# Altium schematic symbol library Capacitors.SchLib: 7 symbols
Pins are listed as number, name and electrical type; pins without a type are passive.

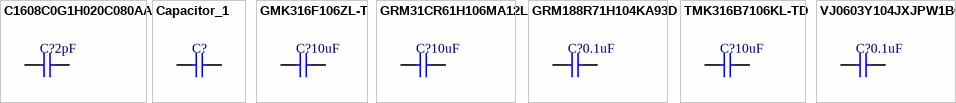
[diagram p0: symbols C1608C0G1H020C080AA to VJ0603Y104JXJPW1BC]

## C1608C0G1H020C080AA
designator C?  value 2pF  (hidden comment: *)
CAP CER 2pF 0603 50V C0G 12.5%; Manufacturer: TDK; Manufacturer Part Number: C1608C0G1H020C080AA; Description: Multilayer Ceramic Capacitors MLCC - SMD/SMT 0603 50volts 2.0pF C0G 0.25pF; Tolerance: 0.25 pF; Type: Commercial Grade MLCC; Voltage Rating DC: 50 VDC; Class: Class 1; Dielectric: C0G (NP0); Supplier 1: Mouser; Supplier Part Number 1: 810-C1608C0G1H020C; RoHS: RoHS Compliant; Category: Multilayer Ceramic Capacitors MLCC - SMD/SMT; Stock 1: 11697; Pricing 1: 1=0.262, 10=0.033, 100=0.023, 500=0.020, 1000=0.015, 4000=0.013, 8000=0.011, 24000=0.010, 48000=0.008 (EUR); Capacitance: 2 pF; Height: 0.8 mm; Length: 1.6 mm; Package/Case: 0603 (1608 metric); Packaging: Reel; Product: General Type MLCCs; Series: C; Termination Style: SMD/SMT; Width: 0.8 mm; Brand: TDK; Case Code - in: 0603; Case Code - mm: 1608; Maximum Operating Temperature: + 125 C; Minimum Operating Temperature: - 55 C; Standard Pack Qty: 4000; Termination: -; RoHS - Mouser: Y; Minimum Order Quantity: 1; Reeling: True; ComponentLink1URL: http://www.mouser.com/ds/2/400/lcc_commercial_general_en-837201.pdf; ComponentLink1Description: http://www.mouser.com/ds/2/400/lcc_commercial_general_en-837201.pdf
footprint 0603C_H (Chip Capacitor, 2-Leads, IPC Hight Density)
footprint 0603C_L (Chip Capacitor, 2-Leads, IPC Low Density)
footprint 0603C_M (Chip Capacitor, 2-Leads, IPC Medium Density)
pins: 1, 2

## Capacitor_1
designator C?  (value not drawn)
pins: 1, 2

## GMK316F106ZL-T
designator C?  value 10uF  (hidden comment: *)
CAP CER 1206 10uF 35V Y5V 20%; Manufacturer: Taiyo Yuden; Manufacturer Part Number: GMK316F106ZL-T; Description: Multilayer Ceramic Capacitors MLCC - SMD/SMT 10uF 35V Y5V +80/-20%1206STD; Tolerance: - 20 %, + 80 %; Type: Multilayer Ceramic Capacitor; Voltage Rating DC: 35 VDC; Qualification: AEC-Q200; Supplier 1: Mouser; RoHS: RoHS Compliant; Category: Multilayer Ceramic Capacitors MLCC - SMD/SMT; Stock 1: 237302; Pricing 1: 1=0.407, 10=0.182, 100=0.104, 500=0.071, 1000=0.057, 2000=0.046, 4000=0.042, 10000=0.040, 24000=0.037 (EUR); Capacitance: 10 uF; Height: 1.6 mm; Length: 3.2 mm; Package/Case: 1206 (3216 metric); Packaging: Reel; Product: General Type MLCCs; Series: M; Termination Style: SMD/SMT; Width: 1.6 mm; Brand: Taiyo Yuden; Case Code - in: 1206; Case Code - mm: 3216; Dielectric: Y5V; Maximum Operating Temperature: + 85 C; Minimum Operating Temperature: - 30 C; Standard Pack Qty: 2000; RoHS - Mouser: Y; Minimum Order Quantity: 1; Reeling: True; ComponentLink1URL: http://www.mouser.com/ds/2/396/mlcc_all_e-541559.pdf; ComponentLink1Description: http://www.mouser.com/ds/2/396/mlcc_all_e-541559.pdf; Supplier Part Number 1: 963-GMK316F106ZL-T
footprint 1206_1.6_H (Chip Capacitor, 2-Leads, IPC Hight Density)
footprint 1206_1.6_L (Chip Capacitor, 2-Leads, IPC Low Density)
footprint 1206_1.6_M (Chip Capacitor, 2-Leads, IPC Medium Density)
pins: 1, 2

## GRM31CR61H106MA12L
designator C?  value 10uF  (hidden comment: *)
CAP CER 1206 10uF 50V X5R 20%; Manufacturer: Murata Electronics; Manufacturer Part Number: GRM31CR61H106MA12L; Description: Multilayer Ceramic Capacitors MLCC - SMD/SMT 1206 10uF 50volts X5R 20%; Type: General Purpose Ceramic Capacitors; Voltage Rating DC: 50 VDC; Class: Class 2; Product Status: New Product; Supplier 1: Mouser; Supplier Part Number 1: 81-GRM31CR61H106MA2L; RoHS: RoHS Compliant; Category: Multilayer Ceramic Capacitors MLCC - SMD/SMT; Stock 1: 0; Pricing 1: 1=0.308, 10=0.168, 100=0.110, 500=0.100, 1000=0.091, 2000=0.063, 10000=0.062, 24000=0.060, 50000=0.053 (EUR); Capacitance: 10 uF; Height: 1.6 mm; Length: 3.2 mm; Package/Case: 1206 (3216 metric); Packaging: Reel; Product: General Type MLCCs; Series: GRM; Termination Style: SMD/SMT; Tolerance: 20 %; Width: 1.6 mm; Brand: Murata Electronics; Case Code - in: 1206; Case Code - mm: 3216; Dielectric: X5R; Maximum Operating Temperature: + 85 C; Minimum Operating Temperature: - 55 C; Standard Pack Qty: 2000; RoHS - Mouser: Y; Minimum Order Quantity: 1; Reeling: True; ComponentLink1URL: http://www.mouser.com/ds/2/281/c02e-2905.pdf; ComponentLink1Description: http://www.mouser.com/ds/2/281/c02e-2905.pdf
footprint 1206_1.6_L (Chip Capacitor, 2-Leads, IPC Low Density)
footprint 1206_1.6_H (Chip Capacitor, 2-Leads, IPC Hight Density)
footprint 1206_1.6_M (Chip Capacitor, 2-Leads, IPC Medium Density)
pins: 1, 2

## GRM188R71H104KA93D
designator C?  value 0.1uF  (hidden comment: *)
CAP CER 0603 0.1uF 50V X7R 10%; Manufacturer: Murata Electronics; Manufacturer Part Number: GRM188R71H104KA93D; Description: Multilayer Ceramic Capacitors MLCC - SMD/SMT 0603 0.1uF 50volts X7R 10%; Type: General Purpose MLCC; Voltage Rating DC: 50 VDC; Qualification: Commercial; Supplier 1: Mouser; Supplier Part Number 1: 81-GRM39X104K50D; RoHS: RoHS Compliant; Category: Multilayer Ceramic Capacitors MLCC - SMD/SMT; Stock 1: 1630978; Pricing 1: 1=0.091, 10=0.019, 100=0.013, 500=0.011, 1000=0.008, 4000=0.008 (EUR); Capacitance: 0.1 uF; Height: 0.8 mm; Length: 1.6 mm; Package/Case: 0603 (1608 metric); Packaging: Reel; Product: General Type MLCCs; Series: GRM; Termination Style: SMD/SMT; Tolerance: 10 %; Width: 0.8 mm; Brand: Murata Electronics; Case Code - in: 0603; Case Code - mm: 1608; Dielectric: X7R; Maximum Operating Temperature: + 125 C; Minimum Operating Temperature: - 55 C; Standard Pack Qty: 4000; RoHS - Mouser: Y; Minimum Order Quantity: 1; Reeling: True; ComponentLink1URL: http://www.mouser.com/ds/2/281/c02e-2905.pdf; ComponentLink1Description: http://www.mouser.com/ds/2/281/c02e-2905.pdf
footprint 0603C_L (Chip Capacitor, 2-Leads, IPC Low Density)
footprint 0603C_H (Chip Capacitor, 2-Leads, IPC Hight Density)
footprint 0603C_M (Chip Capacitor, 2-Leads, IPC Medium Density)
pins: 1, 2

## TMK316B7106KL-TD
designator C?  value 10uF  (hidden comment: *)
CAP CER 1206 10uF 25V X7R 10%; Manufacturer: Taiyo Yuden; Manufacturer Part Number: TMK316B7106KL-TD; Description: Multilayer Ceramic Capacitors MLCC - SMD/SMT 10uF 25V X7R +/-10%1206STD; Type: Multilayer Ceramic Capacitor; Voltage Rating DC: 25 VDC; Qualification: AEC-Q200; Supplier 1: Mouser; Supplier Part Number 1: 963-TMK316B7106KL-TD; RoHS: RoHS Compliant; Category: Multilayer Ceramic Capacitors MLCC - SMD/SMT; Stock 1: 113143; Pricing 1: 1=0.434, 10=0.230, 100=0.135, 500=0.105, 1000=0.082, 2000=0.063, 4000=0.059, 10000=0.055, 24000=0.052 (EUR); Capacitance: 10 uF; Height: 1.6 mm; Length: 3.2 mm; Package/Case: 1206 (3216 metric); Packaging: Reel; Product: General Type MLCCs; Series: M; Termination Style: SMD/SMT; Tolerance: 10 %; Width: 1.6 mm; Brand: Taiyo Yuden; Case Code - in: 1206; Case Code - mm: 3216; Dielectric: X7R; Maximum Operating Temperature: + 125 C; Minimum Operating Temperature: - 55 C; Standard Pack Qty: 2000; RoHS - Mouser: Y; Minimum Order Quantity: 1; Reeling: True; ComponentLink1URL: http://www.mouser.com/ds/2/396/mlcc_all_e-541559.pdf; ComponentLink1Description: http://www.mouser.com/ds/2/396/mlcc_all_e-541559.pdf
footprint 1206_1.6_L (Chip Capacitor, 2-Leads, IPC Low Density)
footprint 1206_1.6_H (Chip Capacitor, 2-Leads, IPC Hight Density)
footprint 1206_1.6_M (Chip Capacitor, 2-Leads, IPC Medium Density)
pins: 1, 2

## VJ0603Y104JXJPW1BC
designator C?  value 0.1uF  (hidden comment: *)
CAP CER 0603 0.1uF 16V X7R 5%; Manufacturer: Vishay / Vitramon; Manufacturer Part Number: VJ0603Y104JXJPW1BC; Type: Ultra Small Commodity MLCCs; Voltage Rating DC: 16 VDC; Supplier 1: Mouser; RoHS: RoHS Compliant; Category: Multilayer Ceramic Capacitors MLCC - SMD/SMT; Stock 1: 30210; Pricing 1: 1=0.091, 50=0.022, 100=0.017, 500=0.015, 1000=0.014, 15000=0.011, 75000=0.010 (EUR); Height: 0.95 mm; Length: 1.6 mm; Package/Case: 0603 (1608 metric); Packaging: Reel; Product: General Type MLCCs; Series: VJ W1BC; Termination Style: SMD/SMT; Tolerance: 5 %; Voltage Rating AC: -; Width: 0.8 mm; Brand: Vishay / Vitramon; Case Code - in: 0603; Case Code - mm: 1608; Dielectric: X7R; Maximum Operating Temperature: + 125 C; Minimum Operating Temperature: - 55 C; Standard Pack Qty: 15000; RoHS - Mouser: Y; Minimum Order Quantity: 1; Reeling: True; ComponentLink1URL: http://www.mouser.com/ds/2/427/vjw1bcbascomseries-223529.pdf; ComponentLink1Description: http://www.mouser.com/ds/2/427/vjw1bcbascomseries-223529.pdf; Supplier Part Number 1: 77-VJ0603Y104JXJPBC; Capacitance: 0.1 uF
footprint 0603C_M (Chip Capacitor, 2-Leads, IPC Medium Density)
footprint 0603C_L (Chip Capacitor, 2-Leads, IPC Low Density)
footprint 0603C_H (Chip Capacitor, 2-Leads, IPC Hight Density)
pins: 1, 2